# Altium footprint library Elreg_Sender.PcbLib: 48 footprints (part 2 of 3)
Each footprint in its own frame and in the unit in brackets; x right, y up, seen from the top. Pads: shape width x height; smd on the part's side, far side on the other; paste and mask are expansions set on the pad; w line width, h text height; cw(c..) or ccw(c..) is an arc to the next point about the centre after c.
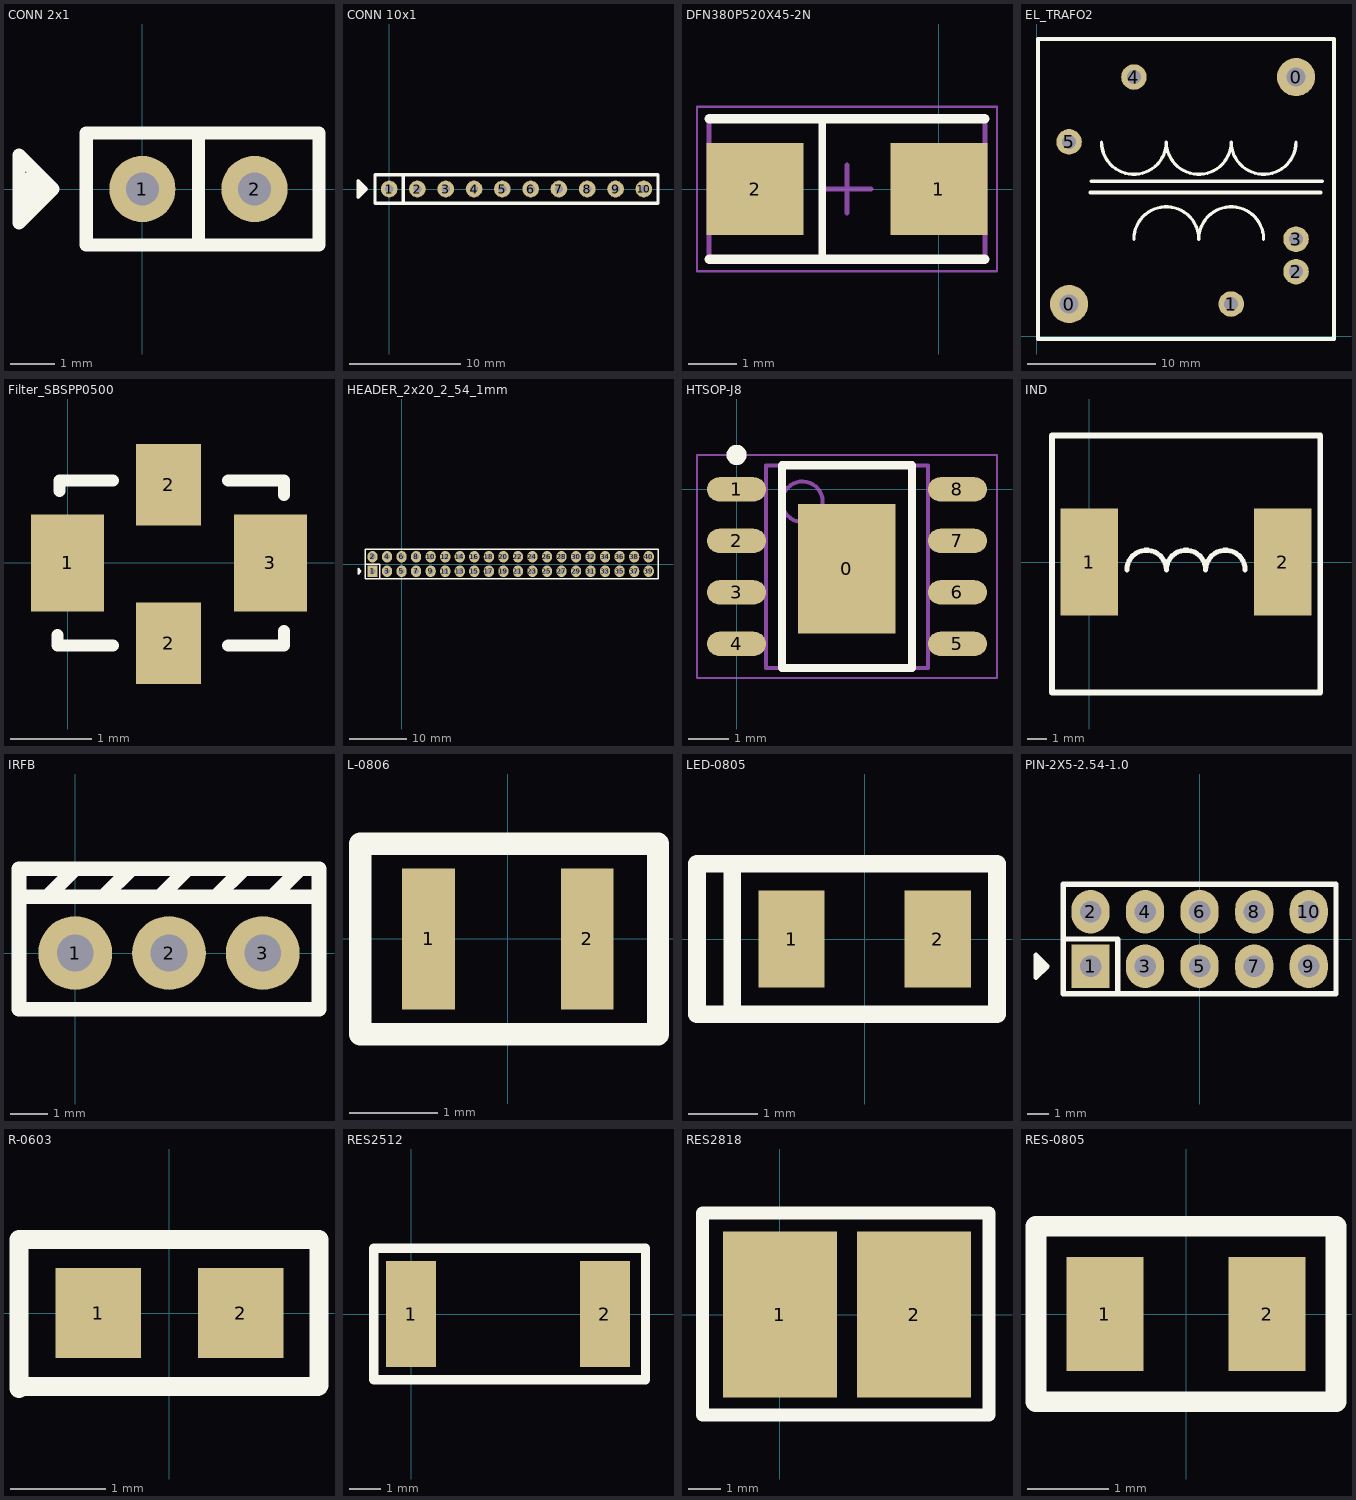
[diagram p1: the footprints below, top view; thin cyan lines are the x and y axes]

## CONN 2x1 [mm]
pads (2):
  round 1.5 hole 0.75: 1(0,0) 2(2.54,0)
Top Overlay:
  lines w0.3: -2.794,-0.508 -2.794,-0.381 -2.413,0 -2.413,0.127 -2.54,0.254 ; -2.794,0 -2.032,0 ; 1.27,-1.27 1.27,1.27 ; -2.032,0 -2.794,-0.762 -2.794,0.762 -2.032,0 ; -1.27,-1.27 -1.27,1.27 4,1.27 4,-1.27 -1.27,-1.27

## CONN 10x1 [mm]
pads (10):
  round 1.5 hole 0.75: 1(0,0) 2(2.54,0) 3(5.08,0) 4(7.62,0) 5(10.16,0) 6(12.7,0) 7(15.24,0) 8(17.78,0) 9(20.32,0) 10(22.86,0)
Top Overlay:
  lines w0.3: -2.794,-0.508 -2.794,-0.381 -2.413,0 -2.413,0.127 -2.54,0.254 ; -2.794,0 -2.032,0 ; 1.27,-1.27 1.27,1.27 ; -2.032,0 -2.794,0.762 -2.794,-0.762 -2.032,0 ; -1.27,-1.27 24.13,-1.27 24.13,1.27 -1.27,1.27 -1.27,-1.27

## DFN380P520X45-2N [mm] "DFN, 2-Leads, Body 2.50x5.20mm, Pitch 3.80mm, IPC Medium Density"
height 0.45
pads (2):
  rect 2x1.9 smd: 1(0,0) 2(-3.8,0)
Top Overlay:
  lines w0.15: -2.413,1.422 -2.413,-1.425 -2.388,-1.45
  lines w0.2: -4.75,-1.45 0.95,-1.45 ; -4.75,1.45 0.95,1.45
Mechanical 13:
  lines w0.1: -4.75,-1.45 -4.75,1.45 0.95,1.45 0.95,-1.45 -4.75,-1.45
Mechanical 15:
  lines w0.05: -5,-1.7 -5,1.7 1.2,1.7 1.2,-1.7 -5,-1.7
  lines w0.1: -2.4,0 -1.4,0 ; -1.9,-0.5 -1.9,0.5
3D body: height 0.45, standoff 0, extent -4.75,-1.45 0.95,1.45

## EL_TRAFO2 [mm] "23x11mmCoil Former: B6581, ferrite   B65811J0000R087"
height 16.5
pads (7):
  round 3 hole 1.5: 0(2.54,2.54) 0(20.32,20.32)
  round 2 hole 1.1: 1(15.24,2.54) 2(20.32,5.08) 3(20.32,7.62) 4(7.62,20.32) 5(2.54,15.24)
Top Overlay:
  lines w0.254: 5.08,15.24 ccw(c7.62,15.24) 10.16,15.24 ccw(c12.7,15.24) 15.24,15.24 ccw(c17.78,15.24) 20.32,15.24 ; 7.62,7.62 cw(c10.16,7.62) 12.7,7.62 cw(c15.24,7.62) 17.78,7.62
  lines w0.3: 4.226,11.28 22.26,11.28 ; 4.31,12.162 22.344,12.162 ; 0.1,-0.2 0.1,23.3 23.3,23.3 23.3,-0.2 0.1,-0.2

## Filter_SBSPP0500 [mm]
height 1.6
pads (4):
  rect 0.9x1.2 smd: 1(0,0) 3(2.5,0)
  rect 0.8x1 smd: 2(1.245,-0.991) 2(1.245,0.965)
Top Overlay:
  lines w0.15: -0.127,-0.889 -0.127,-1.016 0.559,-1.016 ; -0.102,0.889 -0.102,1.016 0.559,1.016 ; 1.981,-1.016 2.667,-1.016 2.667,-0.838 ; 1.981,1.016 2.667,1.016 2.667,0.838

## HEADER_2x20_2_54_1mm [mil] "Pin Header"
height 374.02
pads (40):
  rect 70x80 hole 39.37: 1(-200,-50)
  oval 70x80 hole 39.37: 2(-200,50) 3(-100,-50) 4(-100,50) 5(0,-50) 6(0,50) 7(100,-50) 8(100,50) 9(200,-50) 10(200,50) 11(300,-50) 12(300,50) 13(400,-50) 14(400,50) 15(500,-50) 16(500,50) 17(600,-50) 18(600,50) 19(700,-50) 20(700,50) 21(800,-50) 22(800,50) 23(900,-50) 24(900,50) 25(1000,-50) 26(1000,50) 27(1100,-50) 28(1100,50) 29(1200,-50) 30(1200,50) 31(1300,-50) 32(1300,50) 33(1400,-50) 34(1400,50) 35(1500,-50) 36(1500,50) 37(1600,-50) 38(1600,50) 39(1700,-50) 40(1700,50)
Top Overlay:
  lines w10: -290,-60 -290,-40 ; -250,0 -150,0 -150,-100 ; -300,-70 -300,-30 -280,-50 -300,-70 ; -250,-100 1763.78,-100 1763.78,100 -250,100 -250,-100
3D body: height 1000, standoff -169.29, extent -251.97,-102.36 1767.72,102.36

## HTSOP-J8 [mm] "TSOP, 8-Leads, Body 4.90x3.90mm, Pitch 1.27mm, IPC Medium Density"
height 1.1
pads (9):
  rect 2.4x3.2 smd: 0(2.718,-1.956)
  oval 1.45x0.6 smd: 1(0,0) 2(0,-1.27) 3(0,-2.54) 4(0,-3.81) 5(5.45,-3.81) 6(5.45,-2.54) 7(5.45,-1.27) 8(5.45,0)
Top Overlay:
  circle w0.25: c0,0.85 r0.125
  lines w0.2: 1.125,-4.405 4.325,-4.405 4.325,0.595 1.125,0.595 1.125,-4.405
Mechanical 13:
  circle w0.1: c1.625,-0.305 r0.5
  lines w0.1: 0.725,-4.405 4.725,-4.405 4.725,0.595 0.725,0.595 0.725,-4.405
Mechanical 15:
  lines w0.05: -0.975,-4.655 6.425,-4.655 6.425,0.845 -0.975,0.845 -0.975,-4.655
  lines w0.1: 2.225,-1.905 3.225,-1.905 ; 2.725,-2.405 2.725,-1.405
3D body: height 1.1, standoff 0.1, extent 0.725,-4.405 4.725,0.595

## IND [mm]
pads (2):
  rect 2.9x5.4 smd: 1(0,0) 2(9.8,0)
Top Overlay:
  lines w0.254: 1.9,-0.4 cw(c2.9,-0.4) 3.9,-0.4 cw(c4.9,-0.4) 5.9,-0.4 cw(c6.9,-0.4) 7.9,-0.4
  lines w0.3: -1.9,-6.6 -1.9,6.4 11.7,6.4 11.7,-6.6 -1.9,-6.6

## IRFB [mm]
pads (3):
  round 2 hole 1: 1(0,0) 2(2.54,0) 3(5.08,0)
Top Overlay:
  lines w0.4: -0.762,1.524 0,2.286 ; 0.762,1.524 1.524,2.286 ; 2.286,1.524 3.048,2.286 ; 3.81,1.524 4.572,2.286 ; 5.334,1.524 6.096,2.286 ; -1.524,1.524 -1.524,2.286 6.604,2.286 6.604,1.524 ; -1.524,1.524 6.604,1.524 ; -1.524,1.524 -1.524,-1.524 6.604,-1.524 6.604,1.524

## L-0806 [mm] "SMD, 0805"
height 0.55
pads (2):
  rect 0.6x1.6 smd: 1(-0.9,0) 2(0.9,0)
Top Overlay:
  lines w0.254: -1.676,1.055 -1.676,-1.08 1.702,-1.08 1.702,1.08 -1.676,1.08
3D body: height 0.45, standoff 0, extent -1,-0.62 1,0.63

## LED-0805 [mm] "LED, SMD, 0805"
height 0.8
pads (2):
  rect 0.95x1.4 smd: 1(-1.05,0) 2(1.05,0)
Top Overlay:
  lines w0.254: -1.9,-1.08 -2.408,-1.08 -2.408,1.08 -1.9,1.08 ; -1.9,-1.08 -1.9,1.08 ; -1.9,-1.08 1.9,-1.08 1.9,1.08 -1.9,1.08
3D body: height 0.85, standoff 0.01, extent -1.03,-0.455 1.032,0.451

## PIN-2X5-2.54-1.0 [mil] "Pin Header"
height 374.02
pads (10):
  rect 70x80 hole 39.37: 1(-200,-50)
  oval 70x80 hole 39.37: 2(-200,50) 3(-100,-50) 4(-100,50) 5(0,-50) 6(0,50) 7(100,-50) 8(100,50) 9(200,-50) 10(200,50)
Top Overlay:
  lines w10: -290,-60 -290,-40 ; -250,0 -150,0 -150,-100 ; -300,-70 -280,-50 -300,-30 -300,-70 ; -250,-100 -250,100 250,100 250,-100 -250,-100
3D body: height 397.64, standoff -59.06, extent -250,-100 250,100

## R-0603 [mm] "Resistor  0603"
height 0.6
pads (2):
  rect 0.9x0.95 smd: 1(-0.75,0) 2(0.75,0)
Top Overlay:
  lines w0.2: -1.585,-0.795 -1.585,0.775 -1.4,0.775 1.4,0.775 1.575,0.775 1.575,-0.765 1.565,-0.775 1.4,-0.775 -1.4,-0.775 -1.565,-0.775
3D body: height 0.86, standoff 0, extent -0.8,-0.4 0.8,0.4

## RES2512 [mm]
pads (2):
  rect 1.6x3.4 smd: 1(0,0) 2(6.2,0)
Top Overlay:
  lines w0.3: -1.2,-2.1 7.5,-2.1 7.5,2.1 -1.2,2.1 -1.2,-2.1

## RES2818 [mm]
pads (2):
  rect 3.5x5.1 smd: 1(0,0) 2(4.118,0)
Top Overlay:
  lines w0.4: -2.382,-3.08 -2.382,3.12 6.418,3.12 6.418,-2.68 6.418,-3.08 -2.082,-3.08 -2.382,-3.08

## RES-0805 [mm] "SMD, 0805"
height 0.55
pads (2):
  rect 0.95x1.4 smd: 1(-1,0) 2(1,0)
Top Overlay:
  lines w0.254: -1.85,-1.08 1.85,-1.08 1.85,1.08 -1.85,1.08 -1.85,-1.08
3D body: height 0.45, standoff 0, extent -1,-0.62 1,0.63